# Altium footprint library 15EDGRC-3.5-02.PcbLib: 1 footprints
Each footprint in its own frame and in the unit in brackets; x right, y up, seen from the top. Pads: shape width x height; smd on the part's side, far side on the other; paste and mask are expansions set on the pad; w line width, h text height; cw(c..) or ccw(c..) is an arc to the next point about the centre after c.
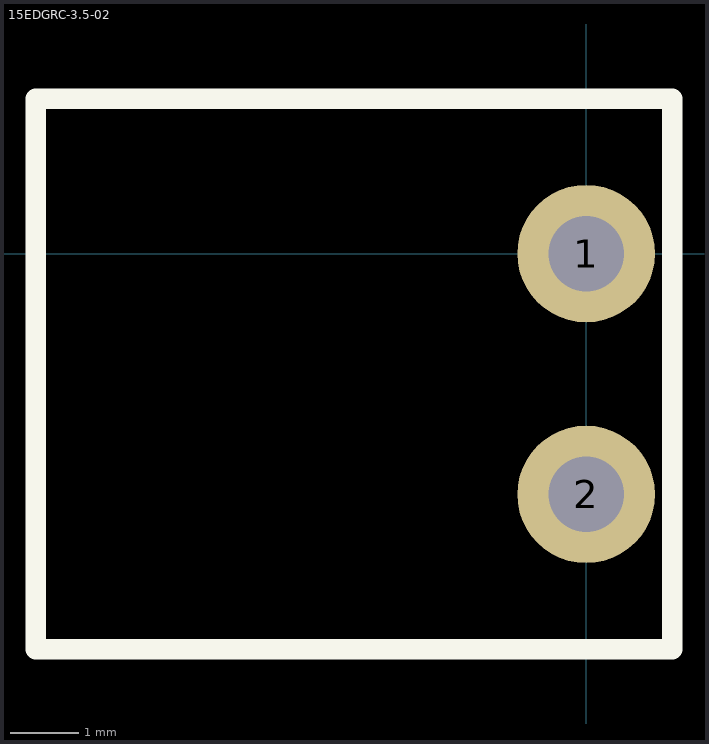
[diagram p0: the footprint, top view; thin cyan lines are the x and y axes]

## 15EDGRC-3.5-02 [mm]
pads (2):
  round 2 hole 1.1: 1(0,0) 2(0,-3.5)
Top Overlay:
  lines w0.3: -8,-5.75 -8,2.25 1.25,2.25 1.25,-5.75 -8,-5.75
TopAssy:
  lines w0.2: -8,-5.75 1.25,-5.75 1.25,2.25 -8,2.25 -8,-5.75
3D body "User Library-15EDGRC-3_5-2.step": height 7.2, standoff -3.4, extent -8,-5.6 1.2,2.2